# Altium schematic symbol library MAX20029ATIAV&plus_T.SchLib: 1 symbol
Pins are listed as number, name and electrical type; pins without a type are passive.

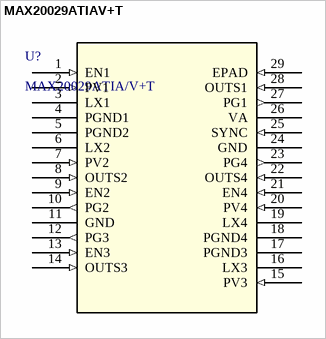
[diagram p0: symbol MAX20029ATIAV+T]

## MAX20029ATIAV+T
designator U?, comment MAX20029ATIA/V+T
Automotive Quad/Triple Low-Voltage Step-Down DC-DC Converters; Manufacturer_Name: Analog Devices / Maxim Integrated; Copyright: Copyright (C) 2025 Ultra Librarian. All rights reserved.; Manufacturer_Part_Number: MAX20029ATIA/V+T; RefDes: RefDes; Type: Type
footprint 21-0140L_T2855-5_MXM
pins: 1 EN1 (in), 2 PV1 (in), 3 LX1, 4 PGND1 (power), 5 PGND2 (power), 6 LX2, 7 PV2 (in), 8 OUTS2 (in), 9 EN2 (in), 10 PG2 (out), 11 GND (power), 12 PG3 (out), 13 EN3 (in), 14 OUTS3 (in), 15 PV3 (in), 16 LX3, 17 PGND3 (power), 18 PGND4 (power), 19 LX4, 20 PV4 (in), 21 EN4 (in), 22 OUTS4 (in), 23 PG4 (out), 24 GND (power), 25 SYNC (in), 26 VA, 27 PG1 (out), 28 OUTS1 (in), 29 EPAD (in)